# Altium schematic symbol library EEH-ZA1V680XP.SchLib: 1 symbol
Pins are listed as number, name and electrical type; pins without a type are passive.

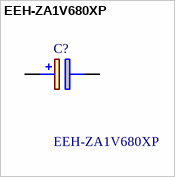
[diagram p0: symbol EEH-ZA1V680XP]

## EEH-ZA1V680XP
designator C?
Aluminum Organic Polymer Capacitors 68uF 35volt AEC-Q200; Manufacturer_Name: Panasonic; Geometry.Height: 8.3mm; Mouser Part Number: 667-EEH-ZA1V680XP; Mouser Price/Stock: https://www.mouser.co.uk/ProductDetail/Panasonic/EEH-ZA1V680XP?qs=7UCyOFMWVHavYMOgLABudw%3D%3D; Manufacturer_Part_Number: EEH-ZA1V680XP; Datasheet Link: http://industrial.panasonic.com/cdbs/www-data/pdf/RDD0000/ABA0000C1221.pdf
footprint EEHZA1E101XP
pins: 1 +, 2 -